# Altium footprint library PcbLib3.PcbLib: 26 footprints (part 2 of 2)
Each footprint in its own frame and in the unit in brackets; x right, y up, seen from the top. Pads: shape width x height; smd on the part's side, far side on the other; paste and mask are expansions set on the pad; w line width, h text height; cw(c..) or ccw(c..) is an arc to the next point about the centre after c.
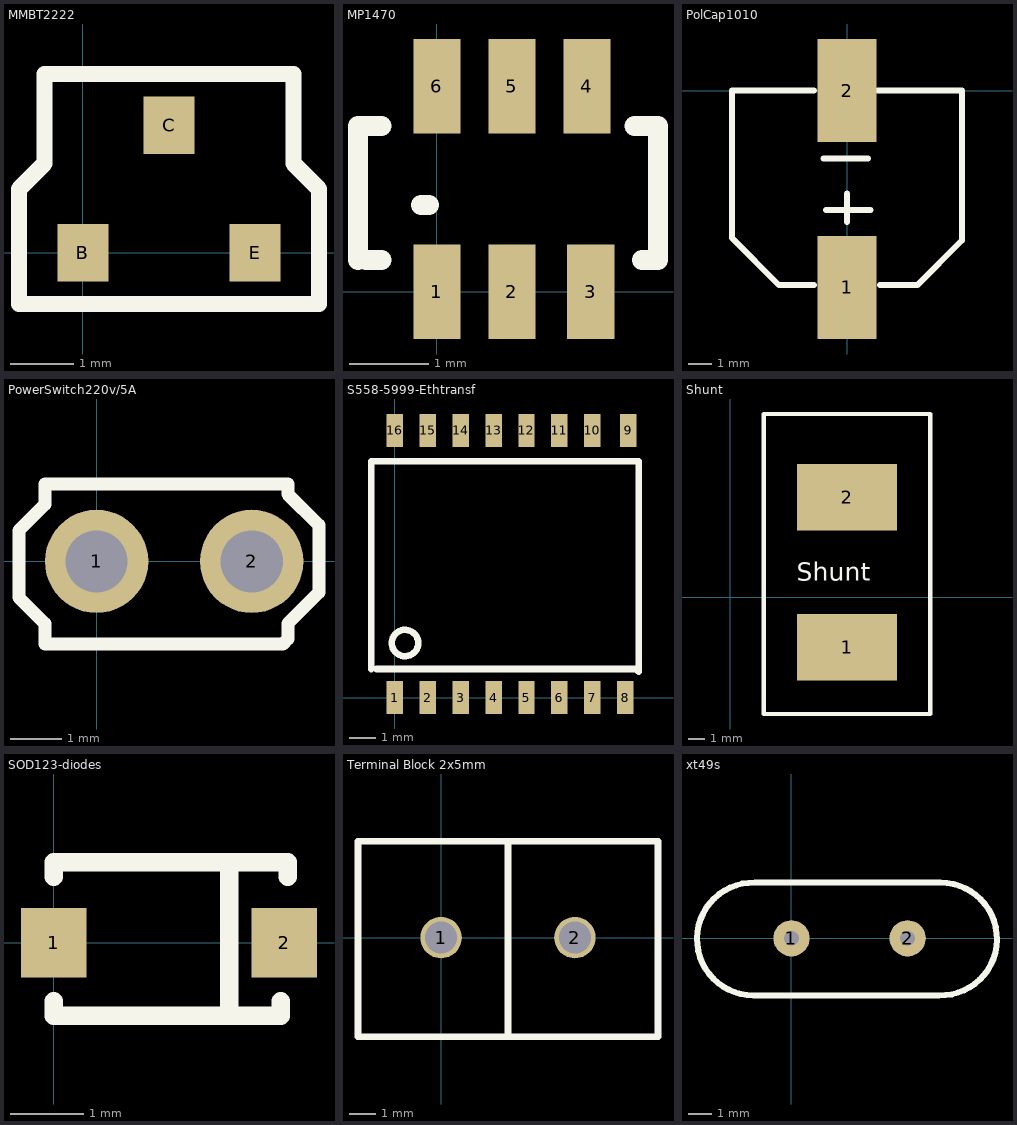
[diagram p1: the footprints below, top view; thin cyan lines are the x and y axes]

## MMBT2222 [mm]
pads (3):
  rect 0.8x0.9 smd: B(0,0) C(1.35,2) E(2.7,0)
Top Overlay:
  lines w0.254: -1,-0.8 -0.6,-0.8 3.3,-0.8 3.7,-0.8 3.7,1 3.3,1.4 3.3,1.6 3.3,2.8 -0.6,2.8 -0.6,1.4 -1,1 -1,-0.8

## MP1470 [mm] "Power  Supply IC"
pads (6):
  rect 0.6x1.2 smd: 1(0,0) 2(0.95,0) 3(1.95,0) 4(1.9,2.6) 5(0.95,2.6) 6(0,2.6)
Top Overlay:
  lines w0.254: -1,0.4 -1,2.1 -0.7,2.1 ; -0.9,0.4 -0.7,0.4 ; -0.2,1.1 -0.1,1.1 ; 2.5,2.1 2.8,2.1 2.8,0.4 2.6,0.4

## PCBComponent_1 [mm]

## PolCap1010 [mm] "Pol Cap 10x10x10"
height 10
pads (2):
  rect 2.5x4.4 smd: 1(0,-8.4) 2(0,0)
Top Overlay:
  lines w0.254: -1.4,-8.3 -2.9,-8.3 -4.9,-6.3 -4.9,0 -1.4,0 ; -1,-2.9 0.9,-2.9 ; -0.9,-5.1 1,-5.1 ; 0,-5.6 0,-4.4 ; 1.3,0 4.9,0 4.9,-6.3 4.9,-6.4 3,-8.3 1.4,-8.3

## PowerSwitch220v/5A [mm]
pads (2):
  round 2 hole 1.2: 1(0,0) 2(3,0)
Top Overlay:
  lines w0.254: -1.5,-0.7 -1.5,0.6 -1,1.1 -1,1.5 3.7,1.5 3.7,1.3 4.3,0.7 4.3,-0.6 3.7,-1.2 3.7,-1.5 3.6,-1.6 3.5,-1.6 -1,-1.6 -1,-1.2 -1.5,-0.7

## S558-5999-Ethtransf [mil]
pads (16):
  rect 25x50 smd: 1(0,0) 2(50,0) 3(100,0) 4(150,0) 5(200,0) 6(250,0) 7(300,0) 8(350,0) 9(354.33,405) 10(300,405) 11(250,405) 12(200,405) 13(150,405) 14(100,405) 15(50,405) 16(0,405)
Top Overlay:
  circle w10: c15.75,82.68 r20.07
  region: 86.61,177.17
  region: 86.61,177.17
  region: 86.61,177.17
  region: 86.61,177.17
  region: 86.61,177.17
  region: 86.61,177.17
  region: 86.61,7.87
  region: 86.61,7.87
  region: 86.61,7.87
  region: 86.61,7.87
  region: 86.61,7.87
  region: 86.61,7.87
  lines w10: -35.43,43.31 -35.43,358.27 370.08,358.27 370.08,39.37 366.14,43.31 -27.56,43.31

## Shunt [mm]
pads (2):
  rect 6x4 smd: 1(7,-3) 2(7,6)
Top Overlay:
  lines w0.254: 2,-7 12,-7 12,11 2,11 2,-7
  text "Shunt" at 4,1 h1.1

## SOD123-diodes [mm]
pads (2):
  rect 0.9x0.95 smd: 1(0,0) 2(3.15,0)
Top Overlay:
  lines w0.254: 0,-0.8 0,-1 3.1,-1 3.1,-0.8 ; 0,0.9 0,1.1 3.2,1.1 3.2,0.9 ; 2.4,-1 2.4,1.1

## Terminal Block 2x5mm [mm]
pads (2):
  round 1.55 hole 1.2: 1(0,0) 2(5,0)
Top Overlay:
  lines w0.254: 2.5,-3.7 2.5,3.6 ; -3.1,-3.7 -3.1,3.6 8.1,3.6 8.1,0.875 8.1,-0.975 8.1,-3.7 -3.1,-3.7

## xt49s [mil] "quartz"
height 196.85
pads (2):
  round 60 hole 24.41: 1(0,0) 2(192.13,0)
Top Overlay:
  lines w10: 246.44,92.14 -60.45,92.14 ccw(c-63.01,-1.16) -62.99,-94.49 244.09,-94.49 ccw(c246.66,-1.19) 246.64,92.14